# EAGLE library part TPS62180 (library comma.ai)
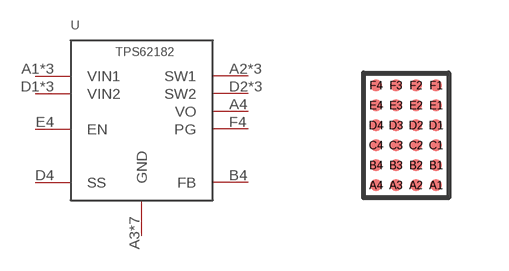
[diagram p18: symbol with the pads of DSBGA-24; footprint DSBGA-24]

Designator prefix U

## TPS62180  [DSBGA-24]
A1  VIN1
A2  SW1
A3  GND
A4  VO
B1  VIN1
B2  SW1
B3  GND
B4  FB
C1  VIN1
C2  SW1
C3  GND
C4  GND
D1  VIN2
D2  SW2
D3  GND
D4  SS
E1  VIN2
E2  SW2
E3  GND
E4  EN
F1  VIN2
F2  SW2
F3  GND
F4  PG

## Footprint DSBGA-24 (pad centres in mm)
smd 0.3 x 0.3: A1 0.75,-1.25; A2 0.25,-1.25; A3 -0.25,-1.25; A4 -0.75,-1.25; B1 0.75,-0.75; B2 0.25,-0.75; B3 -0.25,-0.75; B4 -0.75,-0.75; C1 0.75,-0.25; C2 0.25,-0.25; C3 -0.25,-0.25; C4 -0.75,-0.25; D1 0.75,0.25; D2 0.25,0.25; D3 -0.25,0.25; D4 -0.75,0.25; E1 0.75,0.75; E2 0.25,0.75; E3 -0.25,0.75; E4 -0.75,0.75; F1 0.75,1.25; F2 0.25,1.25; F3 -0.25,1.25; F4 -0.75,1.25